# Altium footprint library L0603-0.8mm.PcbLib: 1 footprints
Each footprint in its own frame and in the unit in brackets; x right, y up, seen from the top. Pads: shape width x height; smd on the part's side, far side on the other; paste and mask are expansions set on the pad; w line width, h text height; cw(c..) or ccw(c..) is an arc to the next point about the centre after c.
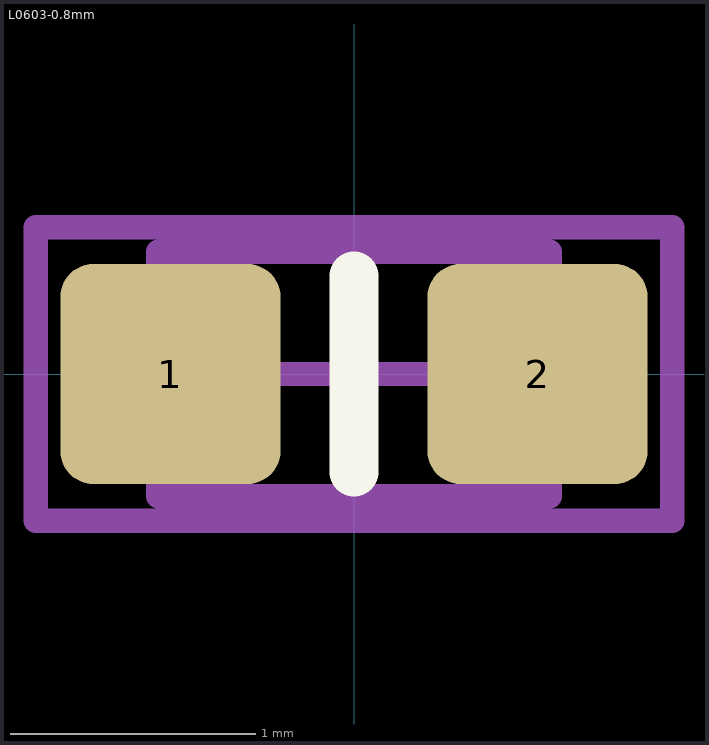
[diagram p0: the footprint, top view; thin cyan lines are the x and y axes]

## L0603-0.8mm [mm] "Chip Capacitor, Body 1.6x0.8mm, IPC High Density"
height 0.8
pads (2):
  rrect30% 0.9x0.9 smd: 1(-0.75,0) 2(0.75,0)
Top Overlay:
  lines w0.2: 0,-0.4 0,0.4
Mechanical 1:
  text ".Designator" at -1.1,-0.3 h1
Mechanical 13:
  lines w0.1: -0.8,-0.5 -0.8,0.5 0.8,0.5 0.8,-0.5 -0.8,-0.5
Mechanical 15:
  lines w0.1: -0.475,0 0.475,0 ; 0,-0.475 0,0.475 ; -1.3,-0.6 -1.3,0.6 1.3,0.6 1.3,-0.6 -1.3,-0.6
3D body: height 0.8, standoff 0, extent -0.8,-0.475 0.8,0.475